# Altium footprint library TerminalBlock_WAGO.PcbLib: 170 footprints (part 4 of 11)
Each footprint in its own frame and in the unit in brackets; x right, y up, seen from the top. Pads: shape width x height; smd on the part's side, far side on the other; paste and mask are expansions set on the pad; w line width, h text height; cw(c..) or ccw(c..) is an arc to the next point about the centre after c.
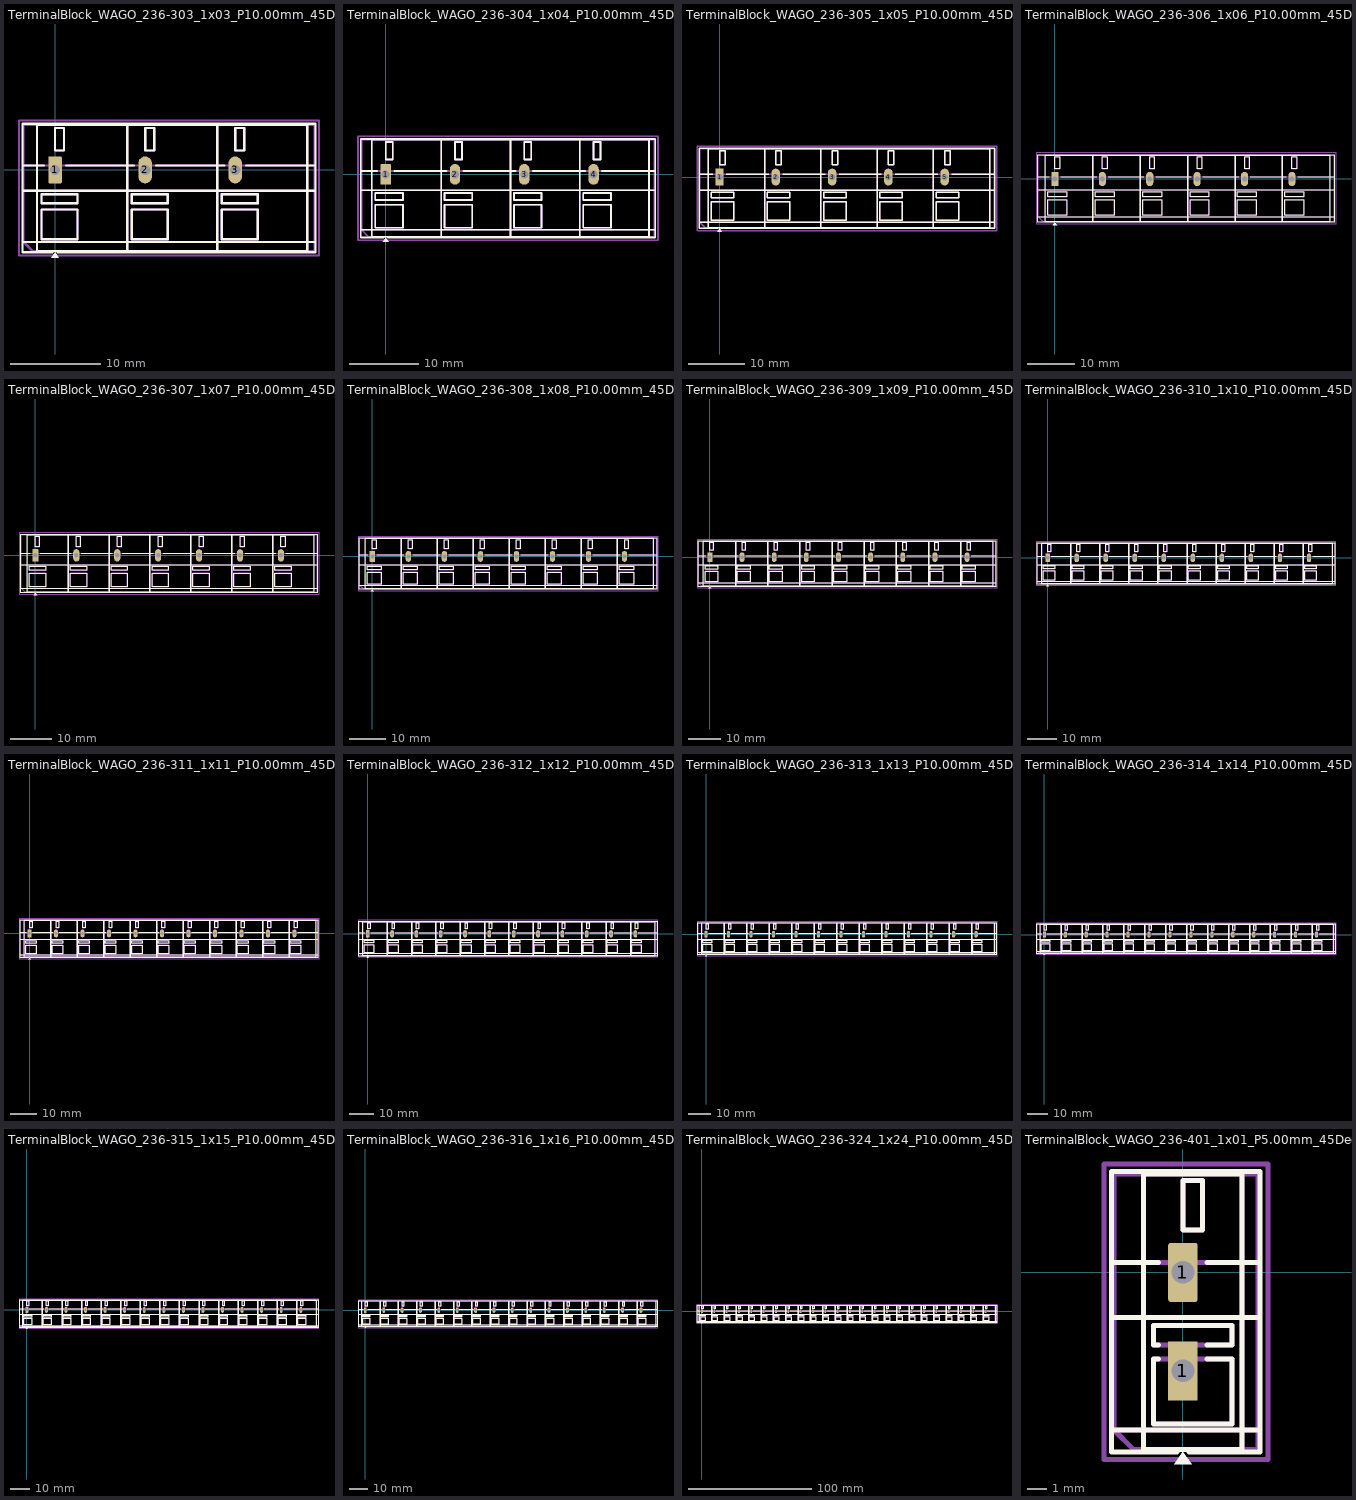
[diagram p3: the footprints below, top view; thin cyan lines are the x and y axes]

## TerminalBlock_WAGO_236-303_1x03_P10.00mm_45Degree [mm]
pads (3):
  rrect17% 1.5x3 hole 1.15: 1(0,0)
  rrect100% 1.5x3 hole 1.15: 2(10,0) 3(20,0)
F.SilkS:
  region: 0.44,-9.73 -0.44,-9.73 0,-9.12
  lines w0.254: -3.62,-8 28.92,-8 ; -3.62,-2.3 28.92,-2.3 ; -3.62,0.5 -1.23,0.5 ; -0.3,-9.12 -3.62,-9.12 -3.62,5.12 28.92,5.12 28.92,-9.12 0.3,-9.12 ; 1.23,0.5 8.77,0.5 ; 11.23,0.5 18.77,0.5 ; 21.23,0.5 28.92,0.5 ; 8,-9 8,5 ; 8,-9 -2,-9 -2,5 8,5 ; 8,-9 8,5 ; 8,-9 18,-9 ; 8,5 18,5 ; 18,-9 18,5 ; 18,-9 18,5 ; 18,-9 28,-9 28,5 18,5 ; -1.5,-7.7 -1.5,-4.4 2.5,-4.4 2.5,-7.7 -1.5,-7.7 ; -1.5,-3.7 -1.5,-2.7 2.5,-2.7 2.5,-3.7 -1.5,-3.7 ; 0,2.15 0,4.65 1,4.65 1,2.15 0,2.15 ; 8.5,-7.7 8.5,-4.4 12.5,-4.4 12.5,-7.7 8.5,-7.7 ; 8.5,-3.7 8.5,-2.7 12.5,-2.7 12.5,-3.7 8.5,-3.7 ; 10,2.15 10,4.65 11,4.65 11,2.15 10,2.15 ; 18.5,-7.7 18.5,-4.4 22.5,-4.4 22.5,-7.7 18.5,-7.7 ; 18.5,-3.7 18.5,-2.7 22.5,-2.7 22.5,-3.7 18.5,-3.7 ; 20,2.15 20,4.65 21,4.65 21,2.15 20,2.15
F.Fab:
  lines w0.254: -3.5,-2.3 28.8,-2.3 ; -3.5,0.5 28.8,0.5 ; 28.8,-8 -3.5,-8 ; -3.5,-8 -3.5,5 28.8,5 28.8,-9 -2.5,-9 -3.5,-8 ; 8,-9 -2,-9 -2,5 8,5 ; 8,-9 8,5 ; 8,-9 8,5 ; 8,-9 18,-9 ; 8,5 18,5 ; 18,-9 18,5 ; 18,-9 18,5 ; 18,-9 28,-9 28,5 18,5 ; -1.5,-7.7 -1.5,-4.4 2.5,-4.4 2.5,-7.7 -1.5,-7.7 ; -1.5,-3.7 -1.5,-2.7 2.5,-2.7 2.5,-3.7 -1.5,-3.7 ; 0,2.15 0,4.65 1,4.65 1,2.15 0,2.15 ; 8.5,-7.7 8.5,-4.4 12.5,-4.4 12.5,-7.7 8.5,-7.7 ; 8.5,-3.7 8.5,-2.7 12.5,-2.7 12.5,-3.7 8.5,-3.7 ; 10,2.15 10,4.65 11,4.65 11,2.15 10,2.15 ; 18.5,-7.7 18.5,-4.4 22.5,-4.4 22.5,-7.7 18.5,-7.7 ; 18.5,-3.7 18.5,-2.7 22.5,-2.7 22.5,-3.7 18.5,-3.7 ; 20,2.15 20,4.65 21,4.65 21,2.15 20,2.15
  text "'.Designator'" at 8.603,-1.84 h1
F.CrtYd:
  lines w0.254: -4,-9.5 -4,5.5 29.3,5.5 29.3,-9.5 -4,-9.5

## TerminalBlock_WAGO_236-304_1x04_P10.00mm_45Degree [mm]
pads (4):
  rrect17% 1.5x3 hole 1.15: 1(0,0)
  rrect100% 1.5x3 hole 1.15: 2(10,0) 3(20,0) 4(30,0)
F.SilkS:
  region: 0.44,-9.73 -0.44,-9.73 0,-9.12
  lines w0.254: -3.62,-8 38.92,-8 ; -3.62,-2.3 38.92,-2.3 ; -3.62,0.5 -1.23,0.5 ; -0.3,-9.12 -3.62,-9.12 -3.62,5.12 38.92,5.12 38.92,-9.12 0.3,-9.12 ; 1.23,0.5 8.77,0.5 ; 11.23,0.5 18.77,0.5 ; 21.23,0.5 28.77,0.5 ; 31.23,0.5 38.92,0.5 ; 8,-9 8,5 ; 8,-9 -2,-9 -2,5 8,5 ; 8,-9 8,5 ; 8,-9 18,-9 ; 8,5 18,5 ; 18,-9 18,5 ; 18,-9 18,5 ; 18,-9 28,-9 ; 18,5 28,5 ; 28,-9 28,5 ; 28,-9 28,5 ; 28,-9 38,-9 38,5 28,5 ; -1.5,-7.7 -1.5,-4.4 2.5,-4.4 2.5,-7.7 -1.5,-7.7 ; -1.5,-3.7 -1.5,-2.7 2.5,-2.7 2.5,-3.7 -1.5,-3.7 ; 0,2.15 0,4.65 1,4.65 1,2.15 0,2.15 ; 8.5,-7.7 8.5,-4.4 12.5,-4.4 12.5,-7.7 8.5,-7.7 ; 8.5,-3.7 8.5,-2.7 12.5,-2.7 12.5,-3.7 8.5,-3.7 ; 10,2.15 10,4.65 11,4.65 11,2.15 10,2.15 ; 18.5,-7.7 18.5,-4.4 22.5,-4.4 22.5,-7.7 18.5,-7.7 ; 18.5,-3.7 18.5,-2.7 22.5,-2.7 22.5,-3.7 18.5,-3.7 ; 20,2.15 20,4.65 21,4.65 21,2.15 20,2.15 ; 28.5,-7.7 28.5,-4.4 32.5,-4.4 32.5,-7.7 28.5,-7.7 ; 28.5,-3.7 28.5,-2.7 32.5,-2.7 32.5,-3.7 28.5,-3.7 ; 30,2.15 30,4.65 31,4.65 31,2.15 30,2.15
F.Fab:
  lines w0.254: -3.5,-2.3 38.8,-2.3 ; -3.5,0.5 38.8,0.5 ; 38.8,-8 -3.5,-8 ; -3.5,-8 -3.5,5 38.8,5 38.8,-9 -2.5,-9 -3.5,-8 ; 8,-9 -2,-9 -2,5 8,5 ; 8,-9 8,5 ; 8,-9 8,5 ; 8,-9 18,-9 ; 8,5 18,5 ; 18,-9 18,5 ; 18,-9 18,5 ; 18,-9 28,-9 ; 18,5 28,5 ; 28,-9 28,5 ; 28,-9 28,5 ; 28,-9 38,-9 38,5 28,5 ; -1.5,-7.7 -1.5,-4.4 2.5,-4.4 2.5,-7.7 -1.5,-7.7 ; -1.5,-3.7 -1.5,-2.7 2.5,-2.7 2.5,-3.7 -1.5,-3.7 ; 0,2.15 0,4.65 1,4.65 1,2.15 0,2.15 ; 8.5,-7.7 8.5,-4.4 12.5,-4.4 12.5,-7.7 8.5,-7.7 ; 8.5,-3.7 8.5,-2.7 12.5,-2.7 12.5,-3.7 8.5,-3.7 ; 10,2.15 10,4.65 11,4.65 11,2.15 10,2.15 ; 18.5,-7.7 18.5,-4.4 22.5,-4.4 22.5,-7.7 18.5,-7.7 ; 18.5,-3.7 18.5,-2.7 22.5,-2.7 22.5,-3.7 18.5,-3.7 ; 20,2.15 20,4.65 21,4.65 21,2.15 20,2.15 ; 28.5,-7.7 28.5,-4.4 32.5,-4.4 32.5,-7.7 28.5,-7.7 ; 28.5,-3.7 28.5,-2.7 32.5,-2.7 32.5,-3.7 28.5,-3.7 ; 30,2.15 30,4.65 31,4.65 31,2.15 30,2.15
  text "'.Designator'" at 13.603,-1.84 h1
F.CrtYd:
  lines w0.254: -4,-9.5 -4,5.5 39.3,5.5 39.3,-9.5 -4,-9.5

## TerminalBlock_WAGO_236-305_1x05_P10.00mm_45Degree [mm]
pads (5):
  rrect17% 1.5x3 hole 1.15: 1(0,0)
  rrect100% 1.5x3 hole 1.15: 2(10,0) 3(20,0) 4(30,0) 5(40,0)
F.SilkS:
  region: 0.44,-9.73 -0.44,-9.73 0,-9.12
  lines w0.254: -3.62,-8 48.92,-8 ; -3.62,-2.3 48.92,-2.3 ; -3.62,0.5 -1.23,0.5 ; -0.3,-9.12 -3.62,-9.12 -3.62,5.12 48.92,5.12 48.92,-9.12 0.3,-9.12 ; 1.23,0.5 8.77,0.5 ; 11.23,0.5 18.77,0.5 ; 21.23,0.5 28.77,0.5 ; 31.23,0.5 38.77,0.5 ; 41.23,0.5 48.92,0.5 ; 8,-9 8,5 ; 8,-9 -2,-9 -2,5 8,5 ; 8,-9 8,5 ; 8,-9 18,-9 ; 8,5 18,5 ; 18,-9 18,5 ; 18,-9 18,5 ; 18,-9 28,-9 ; 18,5 28,5 ; 28,-9 28,5 ; 28,-9 28,5 ; 28,-9 38,-9 ; 28,5 38,5 ; 38,-9 38,5 ; 38,-9 38,5 ; 38,-9 48,-9 48,5 38,5 ; -1.5,-7.7 -1.5,-4.4 2.5,-4.4 2.5,-7.7 -1.5,-7.7 ; -1.5,-3.7 -1.5,-2.7 2.5,-2.7 2.5,-3.7 -1.5,-3.7 ; 0,2.15 0,4.65 1,4.65 1,2.15 0,2.15 ; 8.5,-7.7 8.5,-4.4 12.5,-4.4 12.5,-7.7 8.5,-7.7 ; 8.5,-3.7 8.5,-2.7 12.5,-2.7 12.5,-3.7 8.5,-3.7 ; 10,2.15 10,4.65 11,4.65 11,2.15 10,2.15 ; 18.5,-7.7 18.5,-4.4 22.5,-4.4 22.5,-7.7 18.5,-7.7 ; 18.5,-3.7 18.5,-2.7 22.5,-2.7 22.5,-3.7 18.5,-3.7 ; 20,2.15 20,4.65 21,4.65 21,2.15 20,2.15 ; 28.5,-7.7 28.5,-4.4 32.5,-4.4 32.5,-7.7 28.5,-7.7 ; 28.5,-3.7 28.5,-2.7 32.5,-2.7 32.5,-3.7 28.5,-3.7 ; 30,2.15 30,4.65 31,4.65 31,2.15 30,2.15 ; 38.5,-7.7 38.5,-4.4 42.5,-4.4 42.5,-7.7 38.5,-7.7 ; 38.5,-3.7 38.5,-2.7 42.5,-2.7 42.5,-3.7 38.5,-3.7 ; 40,2.15 40,4.65 41,4.65 41,2.15 40,2.15
F.Fab:
  lines w0.254: -3.5,-2.3 48.8,-2.3 ; -3.5,0.5 48.8,0.5 ; 48.8,-8 -3.5,-8 ; -3.5,-8 -3.5,5 48.8,5 48.8,-9 -2.5,-9 -3.5,-8 ; 8,-9 -2,-9 -2,5 8,5 ; 8,-9 8,5 ; 8,-9 8,5 ; 8,-9 18,-9 ; 8,5 18,5 ; 18,-9 18,5 ; 18,-9 18,5 ; 18,-9 28,-9 ; 18,5 28,5 ; 28,-9 28,5 ; 28,-9 28,5 ; 28,-9 38,-9 ; 28,5 38,5 ; 38,-9 38,5 ; 38,-9 38,5 ; 38,-9 48,-9 48,5 38,5 ; -1.5,-7.7 -1.5,-4.4 2.5,-4.4 2.5,-7.7 -1.5,-7.7 ; -1.5,-3.7 -1.5,-2.7 2.5,-2.7 2.5,-3.7 -1.5,-3.7 ; 0,2.15 0,4.65 1,4.65 1,2.15 0,2.15 ; 8.5,-7.7 8.5,-4.4 12.5,-4.4 12.5,-7.7 8.5,-7.7 ; 8.5,-3.7 8.5,-2.7 12.5,-2.7 12.5,-3.7 8.5,-3.7 ; 10,2.15 10,4.65 11,4.65 11,2.15 10,2.15 ; 18.5,-7.7 18.5,-4.4 22.5,-4.4 22.5,-7.7 18.5,-7.7 ; 18.5,-3.7 18.5,-2.7 22.5,-2.7 22.5,-3.7 18.5,-3.7 ; 20,2.15 20,4.65 21,4.65 21,2.15 20,2.15 ; 28.5,-7.7 28.5,-4.4 32.5,-4.4 32.5,-7.7 28.5,-7.7 ; 28.5,-3.7 28.5,-2.7 32.5,-2.7 32.5,-3.7 28.5,-3.7 ; 30,2.15 30,4.65 31,4.65 31,2.15 30,2.15 ; 38.5,-7.7 38.5,-4.4 42.5,-4.4 42.5,-7.7 38.5,-7.7 ; 38.5,-3.7 38.5,-2.7 42.5,-2.7 42.5,-3.7 38.5,-3.7 ; 40,2.15 40,4.65 41,4.65 41,2.15 40,2.15
  text "'.Designator'" at 18.603,-1.84 h1
F.CrtYd:
  lines w0.254: -4,-9.5 -4,5.5 49.3,5.5 49.3,-9.5 -4,-9.5

## TerminalBlock_WAGO_236-306_1x06_P10.00mm_45Degree [mm]
pads (6):
  rrect17% 1.5x3 hole 1.15: 1(0,0)
  rrect100% 1.5x3 hole 1.15: 2(10,0) 3(20,0) 4(30,0) 5(40,0) 6(50,0)
F.SilkS:
  region: 0.44,-9.73 -0.44,-9.73 0,-9.12
  lines w0.254: -3.62,-8 58.92,-8 ; -3.62,-2.3 58.92,-2.3 ; -3.62,0.5 -1.23,0.5 ; -0.3,-9.12 -3.62,-9.12 -3.62,5.12 58.92,5.12 58.92,-9.12 0.3,-9.12 ; 1.23,0.5 8.77,0.5 ; 11.23,0.5 18.77,0.5 ; 21.23,0.5 28.77,0.5 ; 31.23,0.5 38.77,0.5 ; 41.23,0.5 48.77,0.5 ; 51.23,0.5 58.92,0.5 ; 8,-9 8,5 ; 8,-9 -2,-9 -2,5 8,5 ; 8,-9 8,5 ; 8,-9 18,-9 ; 8,5 18,5 ; 18,-9 18,5 ; 18,-9 18,5 ; 18,-9 28,-9 ; 18,5 28,5 ; 28,-9 28,5 ; 28,-9 28,5 ; 28,-9 38,-9 ; 28,5 38,5 ; 38,-9 38,5 ; 38,-9 38,5 ; 38,-9 48,-9 ; 38,5 48,5 ; 48,-9 48,5 ; 48,-9 48,5 ; 48,-9 58,-9 58,5 48,5 ; -1.5,-7.7 -1.5,-4.4 2.5,-4.4 2.5,-7.7 -1.5,-7.7 ; -1.5,-3.7 -1.5,-2.7 2.5,-2.7 2.5,-3.7 -1.5,-3.7 ; 0,2.15 0,4.65 1,4.65 1,2.15 0,2.15 ; 8.5,-7.7 8.5,-4.4 12.5,-4.4 12.5,-7.7 8.5,-7.7 ; 8.5,-3.7 8.5,-2.7 12.5,-2.7 12.5,-3.7 8.5,-3.7 ; 10,2.15 10,4.65 11,4.65 11,2.15 10,2.15 ; 18.5,-7.7 18.5,-4.4 22.5,-4.4 22.5,-7.7 18.5,-7.7 ; 18.5,-3.7 18.5,-2.7 22.5,-2.7 22.5,-3.7 18.5,-3.7 ; 20,2.15 20,4.65 21,4.65 21,2.15 20,2.15 ; 28.5,-7.7 28.5,-4.4 32.5,-4.4 32.5,-7.7 28.5,-7.7 ; 28.5,-3.7 28.5,-2.7 32.5,-2.7 32.5,-3.7 28.5,-3.7 ; 30,2.15 30,4.65 31,4.65 31,2.15 30,2.15 ; 38.5,-7.7 38.5,-4.4 42.5,-4.4 42.5,-7.7 38.5,-7.7 ; 38.5,-3.7 38.5,-2.7 42.5,-2.7 42.5,-3.7 38.5,-3.7 ; 40,2.15 40,4.65 41,4.65 41,2.15 40,2.15 ; 48.5,-7.7 48.5,-4.4 52.5,-4.4 52.5,-7.7 48.5,-7.7 ; 48.5,-3.7 48.5,-2.7 52.5,-2.7 52.5,-3.7 48.5,-3.7 ; 50,2.15 50,4.65 51,4.65 51,2.15 50,2.15
F.Fab:
  lines w0.254: -3.5,-2.3 58.8,-2.3 ; -3.5,0.5 58.8,0.5 ; 58.8,-8 -3.5,-8 ; -3.5,-8 -3.5,5 58.8,5 58.8,-9 -2.5,-9 -3.5,-8 ; 8,-9 -2,-9 -2,5 8,5 ; 8,-9 8,5 ; 8,-9 8,5 ; 8,-9 18,-9 ; 8,5 18,5 ; 18,-9 18,5 ; 18,-9 18,5 ; 18,-9 28,-9 ; 18,5 28,5 ; 28,-9 28,5 ; 28,-9 28,5 ; 28,-9 38,-9 ; 28,5 38,5 ; 38,-9 38,5 ; 38,-9 38,5 ; 38,-9 48,-9 ; 38,5 48,5 ; 48,-9 48,5 ; 48,-9 48,5 ; 48,-9 58,-9 58,5 48,5 ; -1.5,-7.7 -1.5,-4.4 2.5,-4.4 2.5,-7.7 -1.5,-7.7 ; -1.5,-3.7 -1.5,-2.7 2.5,-2.7 2.5,-3.7 -1.5,-3.7 ; 0,2.15 0,4.65 1,4.65 1,2.15 0,2.15 ; 8.5,-7.7 8.5,-4.4 12.5,-4.4 12.5,-7.7 8.5,-7.7 ; 8.5,-3.7 8.5,-2.7 12.5,-2.7 12.5,-3.7 8.5,-3.7 ; 10,2.15 10,4.65 11,4.65 11,2.15 10,2.15 ; 18.5,-7.7 18.5,-4.4 22.5,-4.4 22.5,-7.7 18.5,-7.7 ; 18.5,-3.7 18.5,-2.7 22.5,-2.7 22.5,-3.7 18.5,-3.7 ; 20,2.15 20,4.65 21,4.65 21,2.15 20,2.15 ; 28.5,-7.7 28.5,-4.4 32.5,-4.4 32.5,-7.7 28.5,-7.7 ; 28.5,-3.7 28.5,-2.7 32.5,-2.7 32.5,-3.7 28.5,-3.7 ; 30,2.15 30,4.65 31,4.65 31,2.15 30,2.15 ; 38.5,-7.7 38.5,-4.4 42.5,-4.4 42.5,-7.7 38.5,-7.7 ; 38.5,-3.7 38.5,-2.7 42.5,-2.7 42.5,-3.7 38.5,-3.7 ; 40,2.15 40,4.65 41,4.65 41,2.15 40,2.15 ; 48.5,-7.7 48.5,-4.4 52.5,-4.4 52.5,-7.7 48.5,-7.7 ; 48.5,-3.7 48.5,-2.7 52.5,-2.7 52.5,-3.7 48.5,-3.7 ; 50,2.15 50,4.65 51,4.65 51,2.15 50,2.15
  text "'.Designator'" at 23.603,-1.84 h1
F.CrtYd:
  lines w0.254: -4,-9.5 -4,5.5 59.3,5.5 59.3,-9.5 -4,-9.5

## TerminalBlock_WAGO_236-307_1x07_P10.00mm_45Degree [mm]
pads (7):
  rrect17% 1.5x3 hole 1.15: 1(0,0)
  rrect100% 1.5x3 hole 1.15: 2(10,0) 3(20,0) 4(30,0) 5(40,0) 6(50,0) 7(60,0)
F.SilkS:
  region: 0.44,-9.73 -0.44,-9.73 0,-9.12
  lines w0.254: -3.62,-8 68.92,-8 ; -3.62,-2.3 68.92,-2.3 ; -3.62,0.5 -1.23,0.5 ; -0.3,-9.12 -3.62,-9.12 -3.62,5.12 68.92,5.12 68.92,-9.12 0.3,-9.12 ; 1.23,0.5 8.77,0.5 ; 11.23,0.5 18.77,0.5 ; 21.23,0.5 28.77,0.5 ; 31.23,0.5 38.77,0.5 ; 41.23,0.5 48.77,0.5 ; 51.23,0.5 58.77,0.5 ; 61.23,0.5 68.92,0.5 ; 8,-9 8,5 ; 8,-9 -2,-9 -2,5 8,5 ; 8,-9 8,5 ; 8,-9 18,-9 ; 8,5 18,5 ; 18,-9 18,5 ; 18,-9 18,5 ; 18,-9 28,-9 ; 18,5 28,5 ; 28,-9 28,5 ; 28,-9 28,5 ; 28,-9 38,-9 ; 28,5 38,5 ; 38,-9 38,5 ; 38,-9 38,5 ; 38,-9 48,-9 ; 38,5 48,5 ; 48,-9 48,5 ; 48,-9 48,5 ; 48,-9 58,-9 ; 48,5 58,5 ; 58,-9 58,5 ; 58,-9 58,5 ; 58,-9 68,-9 68,5 58,5 ; -1.5,-7.7 -1.5,-4.4 2.5,-4.4 2.5,-7.7 -1.5,-7.7 ; -1.5,-3.7 -1.5,-2.7 2.5,-2.7 2.5,-3.7 -1.5,-3.7 ; 0,2.15 0,4.65 1,4.65 1,2.15 0,2.15 ; 8.5,-7.7 8.5,-4.4 12.5,-4.4 12.5,-7.7 8.5,-7.7 ; 8.5,-3.7 8.5,-2.7 12.5,-2.7 12.5,-3.7 8.5,-3.7 ; 10,2.15 10,4.65 11,4.65 11,2.15 10,2.15 ; 18.5,-7.7 18.5,-4.4 22.5,-4.4 22.5,-7.7 18.5,-7.7 ; 18.5,-3.7 18.5,-2.7 22.5,-2.7 22.5,-3.7 18.5,-3.7 ; 20,2.15 20,4.65 21,4.65 21,2.15 20,2.15 ; 28.5,-7.7 28.5,-4.4 32.5,-4.4 32.5,-7.7 28.5,-7.7 ; 28.5,-3.7 28.5,-2.7 32.5,-2.7 32.5,-3.7 28.5,-3.7 ; 30,2.15 30,4.65 31,4.65 31,2.15 30,2.15 ; 38.5,-7.7 38.5,-4.4 42.5,-4.4 42.5,-7.7 38.5,-7.7 ; 38.5,-3.7 38.5,-2.7 42.5,-2.7 42.5,-3.7 38.5,-3.7 ; 40,2.15 40,4.65 41,4.65 41,2.15 40,2.15 ; 48.5,-7.7 48.5,-4.4 52.5,-4.4 52.5,-7.7 48.5,-7.7 ; 48.5,-3.7 48.5,-2.7 52.5,-2.7 52.5,-3.7 48.5,-3.7 ; 50,2.15 50,4.65 51,4.65 51,2.15 50,2.15 ; 58.5,-7.7 58.5,-4.4 62.5,-4.4 62.5,-7.7 58.5,-7.7 ; 58.5,-3.7 58.5,-2.7 62.5,-2.7 62.5,-3.7 58.5,-3.7 ; 60,2.15 60,4.65 61,4.65 61,2.15 60,2.15
F.Fab:
  lines w0.254: -3.5,-2.3 68.8,-2.3 ; -3.5,0.5 68.8,0.5 ; 68.8,-8 -3.5,-8 ; -3.5,-8 -3.5,5 68.8,5 68.8,-9 -2.5,-9 -3.5,-8 ; 8,-9 -2,-9 -2,5 8,5 ; 8,-9 8,5 ; 8,-9 8,5 ; 8,-9 18,-9 ; 8,5 18,5 ; 18,-9 18,5 ; 18,-9 18,5 ; 18,-9 28,-9 ; 18,5 28,5 ; 28,-9 28,5 ; 28,-9 28,5 ; 28,-9 38,-9 ; 28,5 38,5 ; 38,-9 38,5 ; 38,-9 38,5 ; 38,-9 48,-9 ; 38,5 48,5 ; 48,-9 48,5 ; 48,-9 48,5 ; 48,-9 58,-9 ; 48,5 58,5 ; 58,-9 58,5 ; 58,-9 58,5 ; 58,-9 68,-9 68,5 58,5 ; -1.5,-7.7 -1.5,-4.4 2.5,-4.4 2.5,-7.7 -1.5,-7.7 ; -1.5,-3.7 -1.5,-2.7 2.5,-2.7 2.5,-3.7 -1.5,-3.7 ; 0,2.15 0,4.65 1,4.65 1,2.15 0,2.15 ; 8.5,-7.7 8.5,-4.4 12.5,-4.4 12.5,-7.7 8.5,-7.7 ; 8.5,-3.7 8.5,-2.7 12.5,-2.7 12.5,-3.7 8.5,-3.7 ; 10,2.15 10,4.65 11,4.65 11,2.15 10,2.15 ; 18.5,-7.7 18.5,-4.4 22.5,-4.4 22.5,-7.7 18.5,-7.7 ; 18.5,-3.7 18.5,-2.7 22.5,-2.7 22.5,-3.7 18.5,-3.7 ; 20,2.15 20,4.65 21,4.65 21,2.15 20,2.15 ; 28.5,-7.7 28.5,-4.4 32.5,-4.4 32.5,-7.7 28.5,-7.7 ; 28.5,-3.7 28.5,-2.7 32.5,-2.7 32.5,-3.7 28.5,-3.7 ; 30,2.15 30,4.65 31,4.65 31,2.15 30,2.15 ; 38.5,-7.7 38.5,-4.4 42.5,-4.4 42.5,-7.7 38.5,-7.7 ; 38.5,-3.7 38.5,-2.7 42.5,-2.7 42.5,-3.7 38.5,-3.7 ; 40,2.15 40,4.65 41,4.65 41,2.15 40,2.15 ; 48.5,-7.7 48.5,-4.4 52.5,-4.4 52.5,-7.7 48.5,-7.7 ; 48.5,-3.7 48.5,-2.7 52.5,-2.7 52.5,-3.7 48.5,-3.7 ; 50,2.15 50,4.65 51,4.65 51,2.15 50,2.15 ; 58.5,-7.7 58.5,-4.4 62.5,-4.4 62.5,-7.7 58.5,-7.7 ; 58.5,-3.7 58.5,-2.7 62.5,-2.7 62.5,-3.7 58.5,-3.7 ; 60,2.15 60,4.65 61,4.65 61,2.15 60,2.15
  text "'.Designator'" at 28.603,-1.84 h1
F.CrtYd:
  lines w0.254: -4,-9.5 -4,5.5 69.3,5.5 69.3,-9.5 -4,-9.5

## TerminalBlock_WAGO_236-308_1x08_P10.00mm_45Degree [mm]
pads (8):
  rrect17% 1.5x3 hole 1.15: 1(0,0)
  rrect100% 1.5x3 hole 1.15: 2(10,0) 3(20,0) 4(30,0) 5(40,0) 6(50,0) 7(60,0) 8(70,0)
F.SilkS:
  region: 0.44,-9.73 -0.44,-9.73 0,-9.12
  lines w0.254: -3.62,-8 78.92,-8 ; -3.62,-2.3 78.92,-2.3 ; -3.62,0.5 -1.23,0.5 ; -0.3,-9.12 -3.62,-9.12 -3.62,5.12 78.92,5.12 78.92,-9.12 0.3,-9.12 ; 1.23,0.5 8.77,0.5 ; 11.23,0.5 18.77,0.5 ; 21.23,0.5 28.77,0.5 ; 31.23,0.5 38.77,0.5 ; 41.23,0.5 48.77,0.5 ; 51.23,0.5 58.77,0.5 ; 61.23,0.5 68.77,0.5 ; 71.23,0.5 78.92,0.5 ; 8,-9 8,5 ; 8,-9 -2,-9 -2,5 8,5 ; 8,-9 8,5 ; 8,-9 18,-9 ; 8,5 18,5 ; 18,-9 18,5 ; 18,-9 18,5 ; 18,-9 28,-9 ; 18,5 28,5 ; 28,-9 28,5 ; 28,-9 28,5 ; 28,-9 38,-9 ; 28,5 38,5 ; 38,-9 38,5 ; 38,-9 38,5 ; 38,-9 48,-9 ; 38,5 48,5 ; 48,-9 48,5 ; 48,-9 48,5 ; 48,-9 58,-9 ; 48,5 58,5 ; 58,-9 58,5 ; 58,-9 58,5 ; 58,-9 68,-9 ; 58,5 68,5 ; 68,-9 68,5 ; 68,-9 68,5 ; 68,-9 78,-9 78,5 68,5 ; -1.5,-7.7 -1.5,-4.4 2.5,-4.4 2.5,-7.7 -1.5,-7.7 ; -1.5,-3.7 -1.5,-2.7 2.5,-2.7 2.5,-3.7 -1.5,-3.7 ; 0,2.15 0,4.65 1,4.65 1,2.15 0,2.15 ; 8.5,-7.7 8.5,-4.4 12.5,-4.4 12.5,-7.7 8.5,-7.7 ; 8.5,-3.7 8.5,-2.7 12.5,-2.7 12.5,-3.7 8.5,-3.7 ; 10,2.15 10,4.65 11,4.65 11,2.15 10,2.15 ; 18.5,-7.7 18.5,-4.4 22.5,-4.4 22.5,-7.7 18.5,-7.7 ; 18.5,-3.7 18.5,-2.7 22.5,-2.7 22.5,-3.7 18.5,-3.7 ; 20,2.15 20,4.65 21,4.65 21,2.15 20,2.15 ; 28.5,-7.7 28.5,-4.4 32.5,-4.4 32.5,-7.7 28.5,-7.7 ; 28.5,-3.7 28.5,-2.7 32.5,-2.7 32.5,-3.7 28.5,-3.7 ; 30,2.15 30,4.65 31,4.65 31,2.15 30,2.15 ; 38.5,-7.7 38.5,-4.4 42.5,-4.4 42.5,-7.7 38.5,-7.7 ; 38.5,-3.7 38.5,-2.7 42.5,-2.7 42.5,-3.7 38.5,-3.7 ; 40,2.15 40,4.65 41,4.65 41,2.15 40,2.15 ; 48.5,-7.7 48.5,-4.4 52.5,-4.4 52.5,-7.7 48.5,-7.7 ; 48.5,-3.7 48.5,-2.7 52.5,-2.7 52.5,-3.7 48.5,-3.7 ; 50,2.15 50,4.65 51,4.65 51,2.15 50,2.15 ; 58.5,-7.7 58.5,-4.4 62.5,-4.4 62.5,-7.7 58.5,-7.7 ; 58.5,-3.7 58.5,-2.7 62.5,-2.7 62.5,-3.7 58.5,-3.7 ; 60,2.15 60,4.65 61,4.65 61,2.15 60,2.15 ; 68.5,-7.7 68.5,-4.4 72.5,-4.4 72.5,-7.7 68.5,-7.7 ; 68.5,-3.7 68.5,-2.7 72.5,-2.7 72.5,-3.7 68.5,-3.7 ; 70,2.15 70,4.65 71,4.65 71,2.15 70,2.15
F.Fab:
  lines w0.254: -3.5,-2.3 78.8,-2.3 ; -3.5,0.5 78.8,0.5 ; 78.8,-8 -3.5,-8 ; -3.5,-8 -3.5,5 78.8,5 78.8,-9 -2.5,-9 -3.5,-8 ; 8,-9 -2,-9 -2,5 8,5 ; 8,-9 8,5 ; 8,-9 8,5 ; 8,-9 18,-9 ; 8,5 18,5 ; 18,-9 18,5 ; 18,-9 18,5 ; 18,-9 28,-9 ; 18,5 28,5 ; 28,-9 28,5 ; 28,-9 28,5 ; 28,-9 38,-9 ; 28,5 38,5 ; 38,-9 38,5 ; 38,-9 38,5 ; 38,-9 48,-9 ; 38,5 48,5 ; 48,-9 48,5 ; 48,-9 48,5 ; 48,-9 58,-9 ; 48,5 58,5 ; 58,-9 58,5 ; 58,-9 58,5 ; 58,-9 68,-9 ; 58,5 68,5 ; 68,-9 68,5 ; 68,-9 68,5 ; 68,-9 78,-9 78,5 68,5 ; -1.5,-7.7 -1.5,-4.4 2.5,-4.4 2.5,-7.7 -1.5,-7.7 ; -1.5,-3.7 -1.5,-2.7 2.5,-2.7 2.5,-3.7 -1.5,-3.7 ; 0,2.15 0,4.65 1,4.65 1,2.15 0,2.15 ; 8.5,-7.7 8.5,-4.4 12.5,-4.4 12.5,-7.7 8.5,-7.7 ; 8.5,-3.7 8.5,-2.7 12.5,-2.7 12.5,-3.7 8.5,-3.7 ; 10,2.15 10,4.65 11,4.65 11,2.15 10,2.15 ; 18.5,-7.7 18.5,-4.4 22.5,-4.4 22.5,-7.7 18.5,-7.7 ; 18.5,-3.7 18.5,-2.7 22.5,-2.7 22.5,-3.7 18.5,-3.7 ; 20,2.15 20,4.65 21,4.65 21,2.15 20,2.15 ; 28.5,-7.7 28.5,-4.4 32.5,-4.4 32.5,-7.7 28.5,-7.7 ; 28.5,-3.7 28.5,-2.7 32.5,-2.7 32.5,-3.7 28.5,-3.7 ; 30,2.15 30,4.65 31,4.65 31,2.15 30,2.15 ; 38.5,-7.7 38.5,-4.4 42.5,-4.4 42.5,-7.7 38.5,-7.7 ; 38.5,-3.7 38.5,-2.7 42.5,-2.7 42.5,-3.7 38.5,-3.7 ; 40,2.15 40,4.65 41,4.65 41,2.15 40,2.15 ; 48.5,-7.7 48.5,-4.4 52.5,-4.4 52.5,-7.7 48.5,-7.7 ; 48.5,-3.7 48.5,-2.7 52.5,-2.7 52.5,-3.7 48.5,-3.7 ; 50,2.15 50,4.65 51,4.65 51,2.15 50,2.15 ; 58.5,-7.7 58.5,-4.4 62.5,-4.4 62.5,-7.7 58.5,-7.7 ; 58.5,-3.7 58.5,-2.7 62.5,-2.7 62.5,-3.7 58.5,-3.7 ; 60,2.15 60,4.65 61,4.65 61,2.15 60,2.15 ; 68.5,-7.7 68.5,-4.4 72.5,-4.4 72.5,-7.7 68.5,-7.7 ; 68.5,-3.7 68.5,-2.7 72.5,-2.7 72.5,-3.7 68.5,-3.7 ; 70,2.15 70,4.65 71,4.65 71,2.15 70,2.15
  text "'.Designator'" at 33.603,-1.84 h1
F.CrtYd:
  lines w0.254: -4,-9.5 -4,5.5 79.3,5.5 79.3,-9.5 -4,-9.5

## TerminalBlock_WAGO_236-309_1x09_P10.00mm_45Degree [mm]
pads (9):
  rrect17% 1.5x3 hole 1.15: 1(0,0)
  rrect100% 1.5x3 hole 1.15: 2(10,0) 3(20,0) 4(30,0) 5(40,0) 6(50,0) 7(60,0) 8(70,0) 9(80,0)
F.SilkS:
  drawing of 162 lines, arcs and shapes, not listed
F.Fab:
  drawing of 152 lines, arcs and shapes, not listed
  text "'.Designator'" at 38.603,-1.84 h1
F.CrtYd:
  lines w0.254: -4,-9.5 -4,5.5 89.3,5.5 89.3,-9.5 -4,-9.5

## TerminalBlock_WAGO_236-310_1x10_P10.00mm_45Degree [mm]
pads (10):
  rrect17% 1.5x3 hole 1.15: 1(0,0)
  rrect100% 1.5x3 hole 1.15: 2(10,0) 3(20,0) 4(30,0) 5(40,0) 6(50,0) 7(60,0) 8(70,0) 9(80,0) 10(90,0)
F.SilkS:
  drawing of 179 lines, arcs and shapes, not listed
F.Fab:
  drawing of 168 lines, arcs and shapes, not listed
  text "'.Designator'" at 43.603,-1.84 h1
F.CrtYd:
  lines w0.254: -4,-9.5 -4,5.5 99.3,5.5 99.3,-9.5 -4,-9.5

## TerminalBlock_WAGO_236-311_1x11_P10.00mm_45Degree [mm]
pads (11):
  rrect17% 1.5x3 hole 1.15: 1(0,0)
  rrect100% 1.5x3 hole 1.15: 2(10,0) 3(20,0) 4(30,0) 5(40,0) 6(50,0) 7(60,0) 8(70,0) 9(80,0) 10(90,0) 11(100,0)
F.SilkS:
  drawing of 196 lines, arcs and shapes, not listed
F.Fab:
  drawing of 184 lines, arcs and shapes, not listed
  text "'.Designator'" at 48.603,-1.84 h1
F.CrtYd:
  lines w0.254: -4,-9.5 -4,5.5 109.3,5.5 109.3,-9.5 -4,-9.5

## TerminalBlock_WAGO_236-312_1x12_P10.00mm_45Degree [mm]
pads (12):
  rrect17% 1.5x3 hole 1.15: 1(0,0)
  rrect100% 1.5x3 hole 1.15: 2(10,0) 3(20,0) 4(30,0) 5(40,0) 6(50,0) 7(60,0) 8(70,0) 9(80,0) 10(90,0) 11(100,0) 12(110,0)
F.SilkS:
  drawing of 213 lines, arcs and shapes, not listed
F.Fab:
  drawing of 200 lines, arcs and shapes, not listed
  text "'.Designator'" at 53.603,-1.84 h1
F.CrtYd:
  lines w0.254: -4,-9.5 -4,5.5 119.3,5.5 119.3,-9.5 -4,-9.5

## TerminalBlock_WAGO_236-313_1x13_P10.00mm_45Degree [mm]
pads (13):
  rrect17% 1.5x3 hole 1.15: 1(0,0)
  rrect100% 1.5x3 hole 1.15: 2(10,0) 3(20,0) 4(30,0) 5(40,0) 6(50,0) 7(60,0) 8(70,0) 9(80,0) 10(90,0) 11(100,0) 12(110,0) 13(120,0)
F.SilkS:
  drawing of 230 lines, arcs and shapes, not listed
F.Fab:
  drawing of 216 lines, arcs and shapes, not listed
  text "'.Designator'" at 58.603,-1.84 h1
F.CrtYd:
  lines w0.254: -4,-9.5 -4,5.5 129.3,5.5 129.3,-9.5 -4,-9.5

## TerminalBlock_WAGO_236-314_1x14_P10.00mm_45Degree [mm]
pads (14):
  rrect17% 1.5x3 hole 1.15: 1(0,0)
  rrect100% 1.5x3 hole 1.15: 2(10,0) 3(20,0) 4(30,0) 5(40,0) 6(50,0) 7(60,0) 8(70,0) 9(80,0) 10(90,0) 11(100,0) 12(110,0) 13(120,0) 14(130,0)
F.SilkS:
  drawing of 247 lines, arcs and shapes, not listed
F.Fab:
  drawing of 232 lines, arcs and shapes, not listed
  text "'.Designator'" at 63.603,-1.84 h1
F.CrtYd:
  lines w0.254: -4,-9.5 -4,5.5 139.3,5.5 139.3,-9.5 -4,-9.5

## TerminalBlock_WAGO_236-315_1x15_P10.00mm_45Degree [mm]
pads (15):
  rrect17% 1.5x3 hole 1.15: 1(0,0)
  rrect100% 1.5x3 hole 1.15: 2(10,0) 3(20,0) 4(30,0) 5(40,0) 6(50,0) 7(60,0) 8(70,0) 9(80,0) 10(90,0) 11(100,0) 12(110,0) 13(120,0) 14(130,0) 15(140,0)
F.SilkS:
  drawing of 264 lines, arcs and shapes, not listed
F.Fab:
  drawing of 248 lines, arcs and shapes, not listed
  text "'.Designator'" at 68.603,-1.84 h1
F.CrtYd:
  lines w0.254: -4,-9.5 -4,5.5 149.3,5.5 149.3,-9.5 -4,-9.5

## TerminalBlock_WAGO_236-316_1x16_P10.00mm_45Degree [mm]
pads (16):
  rrect17% 1.5x3 hole 1.15: 1(0,0)
  rrect100% 1.5x3 hole 1.15: 2(10,0) 3(20,0) 4(30,0) 5(40,0) 6(50,0) 7(60,0) 8(70,0) 9(80,0) 10(90,0) 11(100,0) 12(110,0) 13(120,0) 14(130,0) 15(140,0) 16(150,0)
F.SilkS:
  drawing of 281 lines, arcs and shapes, not listed
F.Fab:
  drawing of 264 lines, arcs and shapes, not listed
  text "'.Designator'" at 73.603,-1.84 h1
F.CrtYd:
  lines w0.254: -4,-9.5 -4,5.5 159.3,5.5 159.3,-9.5 -4,-9.5

## TerminalBlock_WAGO_236-324_1x24_P10.00mm_45Degree [mm]
pads (24):
  rrect17% 1.5x3 hole 1.15: 1(0,0)
  rrect100% 1.5x3 hole 1.15: 2(10,0) 3(20,0) 4(30,0) 5(40,0) 6(50,0) 7(60,0) 8(70,0) 9(80,0) 10(90,0) 11(100,0) 12(110,0) 13(120,0) 14(130,0) 15(140,0) 16(150,0) 17(160,0) 18(170,0) 19(180,0) 20(190,0) 21(200,0) 22(210,0) 23(220,0) 24(230,0)
F.SilkS:
  drawing of 417 lines, arcs and shapes, not listed
F.Fab:
  drawing of 392 lines, arcs and shapes, not listed
  text "'.Designator'" at 113.603,-1.84 h1
F.CrtYd:
  lines w0.254: -4,-9.5 -4,5.5 239.3,5.5 239.3,-9.5 -4,-9.5

## TerminalBlock_WAGO_236-401_1x01_P5.00mm_45Degree [mm]
pads (2):
  rect 1.5x3 hole 1.15: 1(0,-5)
  rrect17% 1.5x3 hole 1.15: 1(0,0)
F.SilkS:
  region: 0.44,-9.73 -0.44,-9.73 0,-9.12
  lines w0.254: -3.62,-8 3.92,-8 ; -3.62,-2.3 3.92,-2.3 ; -3.62,0.5 -1.23,0.5 ; -1.23,-4.4 -1.5,-4.4 -1.5,-7.7 2.5,-7.7 2.5,-4.4 1.23,-4.4 ; -1.23,-3.7 -1.5,-3.7 -1.5,-2.7 2.5,-2.7 2.5,-3.7 1.23,-3.7 ; -0.3,-9.12 -3.62,-9.12 -3.62,5.12 3.92,5.12 3.92,-9.12 0.3,-9.12 ; 1.23,0.5 3.92,0.5 ; -2,-9 -2,5 3,5 3,-9 -2,-9 ; 0,2.15 0,4.65 1,4.65 1,2.15 0,2.15
F.Fab:
  lines w0.254: -3.5,-2.3 3.8,-2.3 ; -3.5,0.5 3.8,0.5 ; 3.8,-8 -3.5,-8 ; -3.5,-8 -3.5,5 3.8,5 3.8,-9 -2.5,-9 -3.5,-8 ; -2,-9 -2,5 3,5 3,-9 -2,-9 ; -1.5,-7.7 -1.5,-4.4 2.5,-4.4 2.5,-7.7 -1.5,-7.7 ; -1.5,-3.7 -1.5,-2.7 2.5,-2.7 2.5,-3.7 -1.5,-3.7 ; 0,2.15 0,4.65 1,4.65 1,2.15 0,2.15
  text "'.Designator'" at -3.897,-1.84 h1
F.CrtYd:
  lines w0.254: -4,-9.5 -4,5.5 4.31,5.5 4.31,-9.5 -4,-9.5